# EAGLE library part MICROSD (library microbuilder)
MicroSD/Transflash Card Holder with SPI pinout 3M: 2908-05WB-MG 4UConnector: 19656 Footprint courtesy: Adafruit Industries
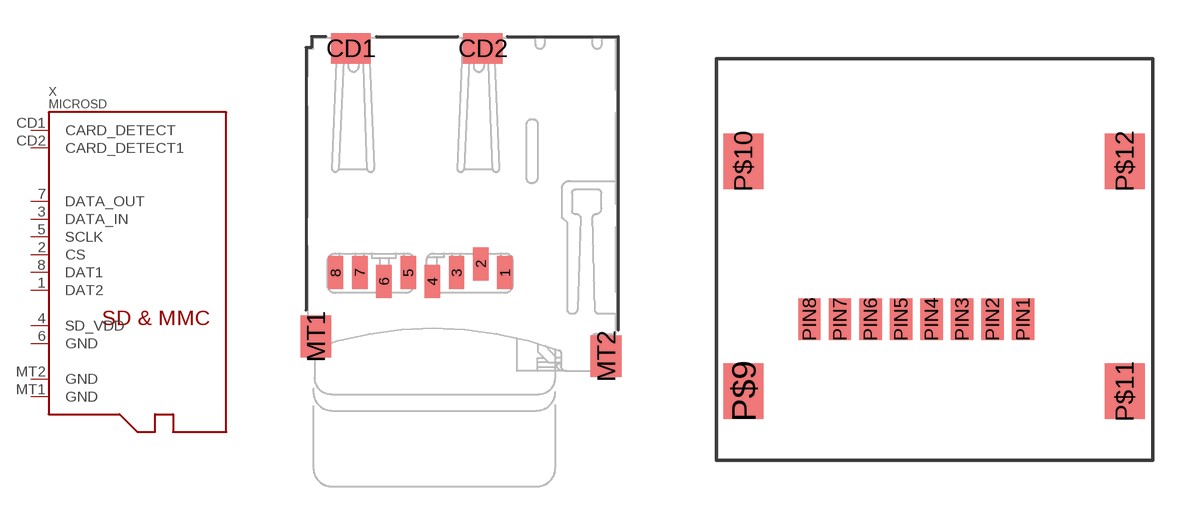
[diagram p1: symbol with the pads of MICROSD; footprints MICROSD, MICROSD_FLIP]

Designator prefix X

## MICROSD  [MICROSD]
1  DAT2
2  CS  in
3  DATA_IN  in
4  SD_VDD  pwr
5  SCLK  in
6  GND  pwr
7  DATA_OUT  out
8  DAT1
CD1  CARD_DETECT  pas
CD2  CARD_DETECT1  pas
MT1  GND  pwr
MT2  GND  pwr

## MICROSDFLIP  [MICROSD_FLIP]
P$9  CARD_DETECT  pas
P$10  CARD_DETECT1  pas
P$11  GND  pwr
P$12  GND  pwr
PIN1  DAT2
PIN2  CS  in
PIN3  DATA_IN  in
PIN4  SD_VDD  pwr
PIN5  SCLK  in
PIN6  GND  pwr
PIN7  DATA_OUT  out
PIN8  DAT1

## Footprint MICROSD (pad centres in mm)
Courtesy: Adafruit Industries
smd 0.7 x 1.5: 1 9,-10.64; 2 7.9,-10.24; 3 6.8,-10.64; 4 5.7,-11.04; 5 4.6,-10.64; 6 3.5,-11.04; 7 2.4,-10.64; 8 1.3,-10.64
smd 1.8 x 1.4: CD1 2,-0.44; CD2 8,-0.44
smd 1.4 x 1.9: MT1 0.4,-13.54; MT2 13.6,-14.44

## Footprint MICROSD_FLIP (pad centres in mm)
flip flop type microsd holder https://www.molex.com/pdm_docs/sd/472192001_sd.pdf
smd 1.45 x 2: P$9 -2.38,-2.6; P$10 -2.38,5.7; P$11 11.37,-2.6; P$12 11.37,5.7
smd 0.8 x 1.5: PIN1 7.7,0; PIN2 6.6,0; PIN3 5.5,0; PIN4 4.4,0; PIN5 3.3,0; PIN6 2.2,0; PIN7 1.1,0; PIN8 0,0